# Altium integrated library TI Power Management Linear Regulator Dual Channel LDO.IntLib: 299 symbols (part 3 of 15)
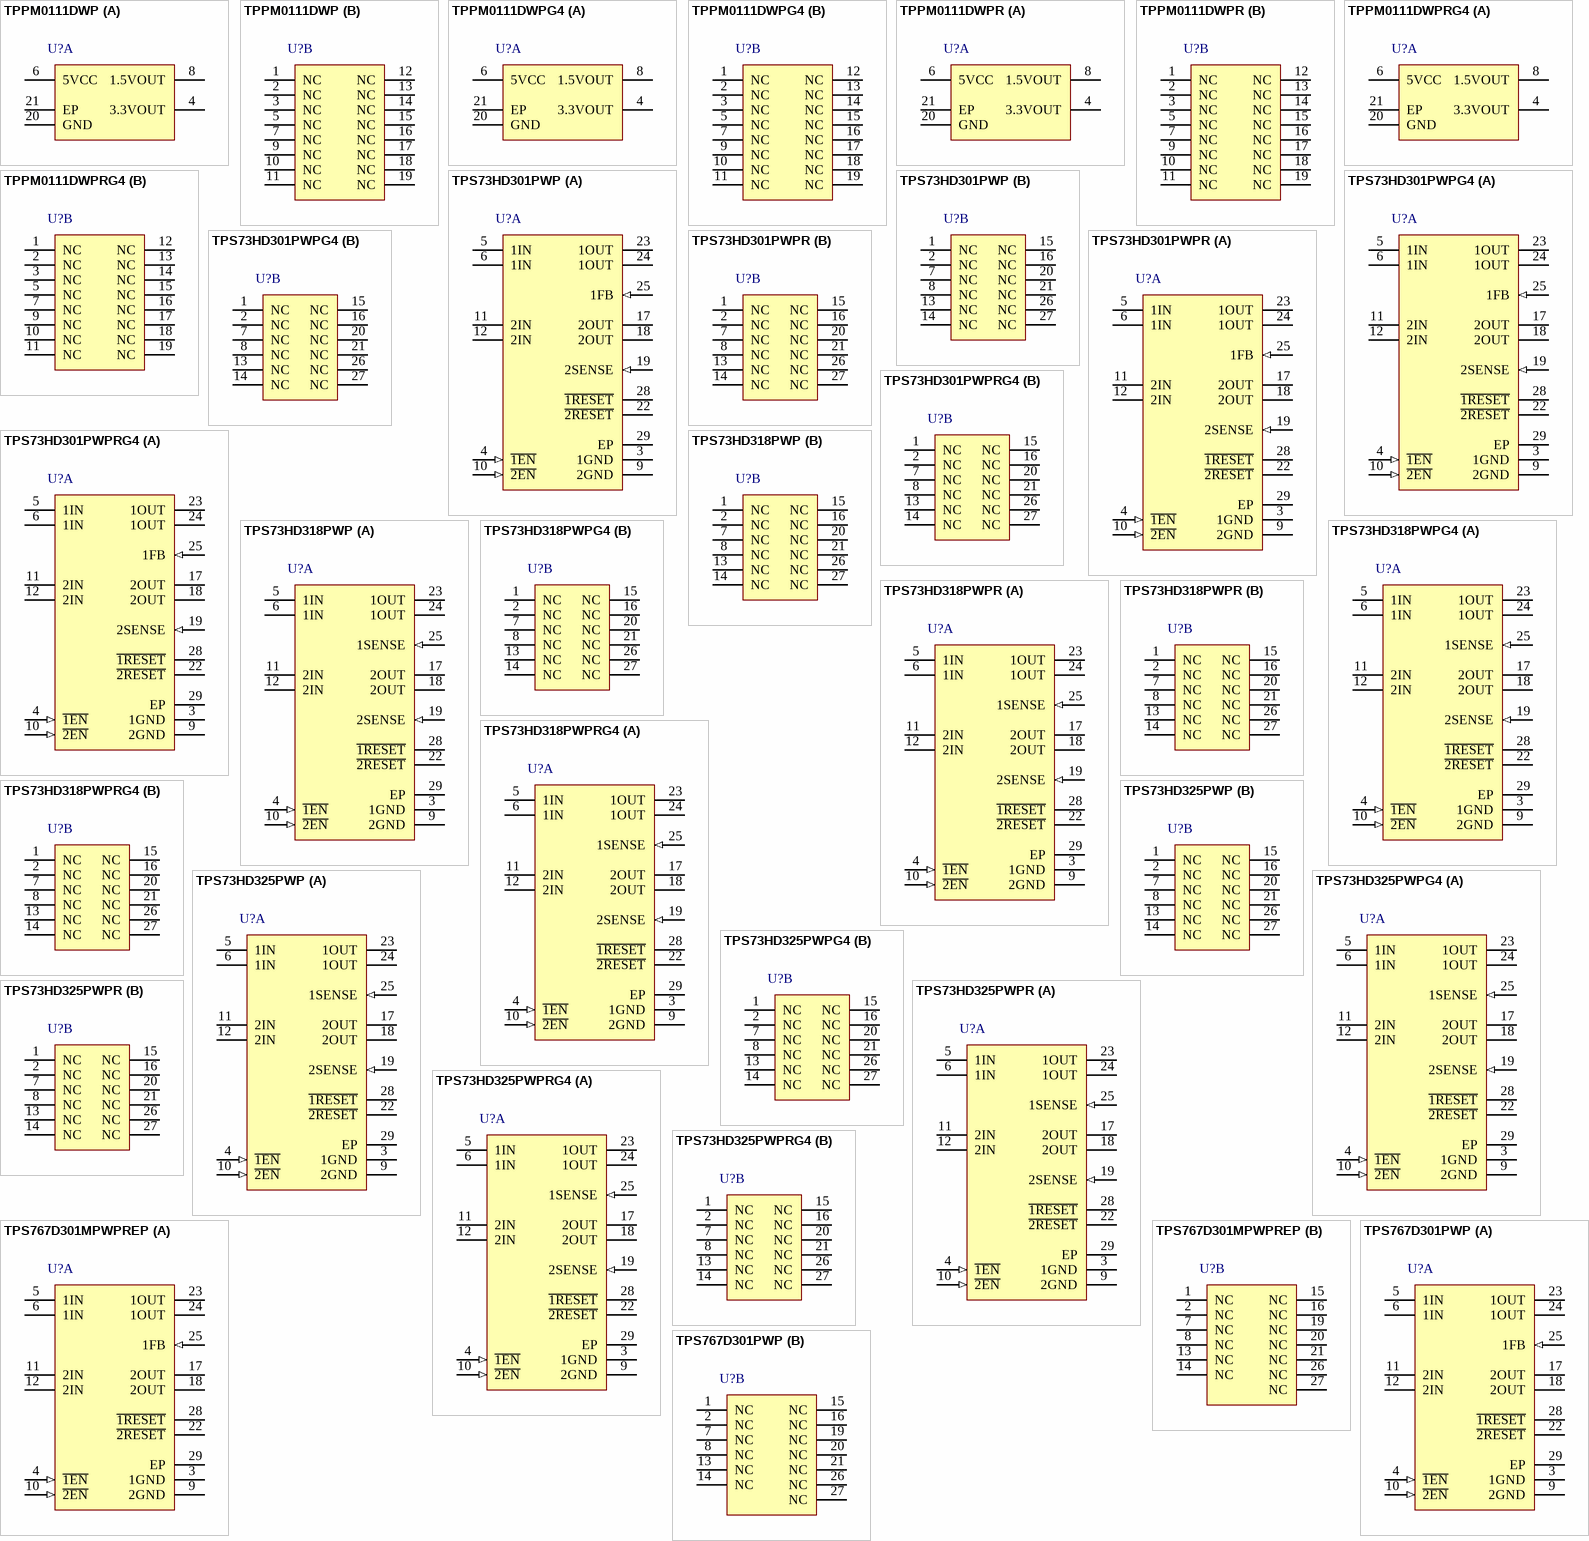
[diagram p13: symbols TPPM0111DWP to TPS767D301PWP]

## TPS73HD301PWPR
designator U?
Dual Output LDO, 750 mA, Fixed 3.3 V Output, Adjustable 1.2 to 9.75 V Output, 2.9 to 10 V Input, 28-pin HTSSOP (PWP), -40 to 125 degC, Green (RoHS & no Sb/Br); Manufacturer: Texas Instruments; PartNumber: TPS73HD301PWPR; Fixed Output Options(V): 3.3; Iout(Max)(A): 0.7; Iq(Typ)(mA): 0.34; SubFamily: Dual Channel LDO; Vdo(Typ)(mV): 353; Vin(Max)(V): 10; Vin(Min)(V): 2.9; Vout2(Max)(V): 9.7; Vout2(Min)(V): 1.2; DatasheetVersion: SLVS167C; PackageVersion: 4073225-6/I; PackageReference: PWP28-5720X1950TP; PackageDescription: 28-Pin Plastic Small Outline, Body 4.4 x 9.7 mm, Pitch 0.65 mm; Supplier 1: Digi-Key; Supplier Part Number 1: TPS73HD301PWPR-ND; Supplier 2: Mouser; Supplier Part Number 2: 595-TPS73HD301PWPR; Eco-Plan: Green (RoHS & no Sb/Br); Iout2(A): 0.7; Vout(Max)(V): 3.3; Vout(Min)(V): 3.3; Mounting Technology: Surface Mount; Code_JEDEC: MO-153; ComponentLink1Description: Manufacturer URL; ComponentLink1URL: http://www.ti.com/; ComponentLink2Description: Datasheet; ComponentLink2URL: http://www.ti.com/general/docs/lit/getliterature.tsp?genericPartNumber=TPS73HD301&fileType=pdf; ComponentLink3Description: Package Specification; ComponentLink3URL: http://www.ti.com/litv/pdf/mpds373
footprint TI-PWP28-5720X1950TP_N (SOP, 28-Leads, Body 9.7x4.4mm, Pitch 0.65mm, Thermal Pad 5.72 x 1.95mm, IPC Medium Density)
footprint TI-PWP28-5720X1950TP_L (SOP, 28-Leads, Body 9.7x4.4mm, Pitch 0.65mm, Thermal Pad 5.72 x 1.95mm, IPC High Density)
footprint TI-PWP28-5720X1950TP_M (SOP, 28-Leads, Body 9.7x4.4mm, Pitch 0.65mm, Thermal Pad 5.72 x 1.95mm, IPC Low Density)
part A pins: 3 1GND (power) "Regulator #1 ground", 4 ~{1EN} (in) "Regulator #1 enable, low = enable", 5 1IN (power) "Regulator #1 input supply voltage", 6 1IN (power) "Regulator #1 input supply voltage", 9 2GND (power) "Regulator #2 ground", 10 ~{2EN} (in) "Regulator #2 enable, low = enable", 11 2IN (power) "Regulator #2 input supply voltage", 12 2IN (power) "Regulator #2 input supply voltage", 17 2OUT (power) "Regulator #2 output voltage", 18 2OUT (power) "Regulator #2 output voltage", 19 2SENSE (in) "Regulator #2 output voltage sense (fixed output)", 22 ~{2RESET} (oc) "Regulator #2 reset signal, low = reset", 23 1OUT (power) "Regulator #1 output voltage", 24 1OUT (power) "Regulator #1 output voltage", 25 1FB (in) "Regulator #1 output voltage feedback (adjustable output)", 28 ~{1RESET} (oc) "Regulator #1 reset signal, low = reset", 29 EP "Exposed Thermal Pad"
part B pins: 1 NC "No connection", 2 NC "No connection", 7 NC "No connection", 8 NC "No connection", 13 NC "No connection", 14 NC "No connection", 15 NC "No connection", 16 NC "No connection", 20 NC "No connection", 21 NC "No connection", 26 NC "No connection", 27 NC "No connection"

## TPS73HD301PWPRG4
designator U?
Dual Output LDO, 750 mA, Fixed 3.3 V Output, Adjustable 1.2 to 9.75 V Output, 2.9 to 10 V Input, 28-pin HTSSOP (PWP), -40 to 125 degC, Green (RoHS & no Sb/Br); Manufacturer: Texas Instruments; PartNumber: TPS73HD301PWPRG4; Fixed Output Options(V): 3.3; Iout(Max)(A): 0.7; Iq(Typ)(mA): 0.34; SubFamily: Dual Channel LDO; Vdo(Typ)(mV): 353; Vin(Max)(V): 10; Vin(Min)(V): 2.9; Vout2(Max)(V): 9.7; Vout2(Min)(V): 1.2; DatasheetVersion: SLVS167C; PackageVersion: 4073225-6/I; PackageReference: PWP28-5720X1950TP; PackageDescription: 28-Pin Plastic Small Outline, Body 4.4 x 9.7 mm, Pitch 0.65 mm; Supplier 1: Digi-Key; Supplier Part Number 1: TPS73HD301PWPRG4-ND; Supplier 2: Mouser; Supplier Part Number 2: 595-TPS73HD301PWPRG4; Eco-Plan: Green (RoHS & no Sb/Br); Iout2(A): 0.7; Vout(Max)(V): 3.3; Vout(Min)(V): 3.3; Mounting Technology: Surface Mount; Code_JEDEC: MO-153; ComponentLink1Description: Manufacturer URL; ComponentLink1URL: http://www.ti.com/; ComponentLink2Description: Datasheet; ComponentLink2URL: http://www.ti.com/general/docs/lit/getliterature.tsp?genericPartNumber=TPS73HD301&fileType=pdf; ComponentLink3Description: Package Specification; ComponentLink3URL: http://www.ti.com/litv/pdf/mpds373
footprint TI-PWP28-5720X1950TP_N (SOP, 28-Leads, Body 9.7x4.4mm, Pitch 0.65mm, Thermal Pad 5.72 x 1.95mm, IPC Medium Density)
footprint TI-PWP28-5720X1950TP_L (SOP, 28-Leads, Body 9.7x4.4mm, Pitch 0.65mm, Thermal Pad 5.72 x 1.95mm, IPC High Density)
footprint TI-PWP28-5720X1950TP_M (SOP, 28-Leads, Body 9.7x4.4mm, Pitch 0.65mm, Thermal Pad 5.72 x 1.95mm, IPC Low Density)
part A pins: 3 1GND (power) "Regulator #1 ground", 4 ~{1EN} (in) "Regulator #1 enable, low = enable", 5 1IN (power) "Regulator #1 input supply voltage", 6 1IN (power) "Regulator #1 input supply voltage", 9 2GND (power) "Regulator #2 ground", 10 ~{2EN} (in) "Regulator #2 enable, low = enable", 11 2IN (power) "Regulator #2 input supply voltage", 12 2IN (power) "Regulator #2 input supply voltage", 17 2OUT (power) "Regulator #2 output voltage", 18 2OUT (power) "Regulator #2 output voltage", 19 2SENSE (in) "Regulator #2 output voltage sense (fixed output)", 22 ~{2RESET} (oc) "Regulator #2 reset signal, low = reset", 23 1OUT (power) "Regulator #1 output voltage", 24 1OUT (power) "Regulator #1 output voltage", 25 1FB (in) "Regulator #1 output voltage feedback (adjustable output)", 28 ~{1RESET} (oc) "Regulator #1 reset signal, low = reset", 29 EP "Exposed Thermal Pad"
part B pins: 1 NC "No connection", 2 NC "No connection", 7 NC "No connection", 8 NC "No connection", 13 NC "No connection", 14 NC "No connection", 15 NC "No connection", 16 NC "No connection", 20 NC "No connection", 21 NC "No connection", 26 NC "No connection", 27 NC "No connection"

## TPS73HD318PWP
designator U?
Dual Output LDO, 750 mA, Fixed 1.8, 3.3 V Output, 2.9 to 10 V Input, 28-pin HTSSOP (PWP), -40 to 125 degC, Green (RoHS & no Sb/Br); Manufacturer: Texas Instruments; PartNumber: TPS73HD318PWP; Iout(Max)(A): 0.7; Iq(Typ)(mA): 0.34; SubFamily: Dual Channel LDO; Vdo(Typ)(mV): 220; Vin(Max)(V): 10; Vin(Min)(V): 2.9; Vout(Max)(V): 1.8; Vout2(Max)(V): 3.3; DatasheetVersion: SLVS167C; PackageVersion: 4073225-6/I; PackageReference: PWP28-5720X1950TP; PackageDescription: 28-Pin Plastic Small Outline, Body 4.4 x 9.7 mm, Pitch 0.65 mm; Supplier 1: Digi-Key; Supplier Part Number 1: 296-2667-5-ND; Supplier 2: Newark; Supplier Part Number 2: 77C0866; Supplier 3: Mouser; Supplier Part Number 3: 595-TPS73HD318PWP; Eco-Plan: Green (RoHS & no Sb/Br); Fixed Output Options(V): 1.8, 3.3; Iout2(A): 0.7; Vout(Min)(V): 1.8; Vout2(Min)(V): 3.3; Mounting Technology: Surface Mount; Code_JEDEC: MO-153; ComponentLink1Description: Manufacturer URL; ComponentLink1URL: http://www.ti.com/; ComponentLink2Description: Datasheet; ComponentLink2URL: http://www.ti.com/general/docs/lit/getliterature.tsp?genericPartNumber=TPS73HD318&fileType=pdf; ComponentLink3Description: Package Specification; ComponentLink3URL: http://www.ti.com/litv/pdf/mpds373
footprint TI-PWP28-5720X1950TP_N (SOP, 28-Leads, Body 9.7x4.4mm, Pitch 0.65mm, Thermal Pad 5.72 x 1.95mm, IPC Medium Density)
footprint TI-PWP28-5720X1950TP_L (SOP, 28-Leads, Body 9.7x4.4mm, Pitch 0.65mm, Thermal Pad 5.72 x 1.95mm, IPC High Density)
footprint TI-PWP28-5720X1950TP_M (SOP, 28-Leads, Body 9.7x4.4mm, Pitch 0.65mm, Thermal Pad 5.72 x 1.95mm, IPC Low Density)
part A pins: 3 1GND (power) "Regulator #1 ground", 4 ~{1EN} (in) "Regulator #1 enable, low = enable", 5 1IN (power) "Regulator #1 input supply voltage", 6 1IN (power) "Regulator #1 input supply voltage", 9 2GND (power) "Regulator #2 ground", 10 ~{2EN} (in) "Regulator #2 enable, low = enable", 11 2IN (power) "Regulator #2 input supply voltage", 12 2IN (power) "Regulator #2 input supply voltage", 17 2OUT (power) "Regulator #2 output voltage", 18 2OUT (power) "Regulator #2 output voltage", 19 2SENSE (in) "Regulator #2 output voltage sense (fixed output)", 22 ~{2RESET} (oc) "Regulator #2 reset signal, low = reset", 23 1OUT (power) "Regulator #1 output voltage", 24 1OUT (power) "Regulator #1 output voltage", 25 1SENSE (in), 28 ~{1RESET} (oc) "Regulator #1 reset signal, low = reset", 29 EP "Exposed Thermal Pad"
part B pins: 1 NC "No connection", 2 NC "No connection", 7 NC "No connection", 8 NC "No connection", 13 NC "No connection", 14 NC "No connection", 15 NC "No connection", 16 NC "No connection", 20 NC "No connection", 21 NC "No connection", 26 NC "No connection", 27 NC "No connection"

## TPS73HD318PWPG4
designator U?
Dual Output LDO, 750 mA, Fixed 1.8, 3.3 V Output, 2.9 to 10 V Input, 28-pin HTSSOP (PWP), -40 to 125 degC, Green (RoHS & no Sb/Br); Manufacturer: Texas Instruments; PartNumber: TPS73HD318PWPG4; Iout(Max)(A): 0.7; Iq(Typ)(mA): 0.34; SubFamily: Dual Channel LDO; Vdo(Typ)(mV): 220; Vin(Max)(V): 10; Vin(Min)(V): 2.9; Vout(Max)(V): 1.8; Vout2(Max)(V): 3.3; DatasheetVersion: SLVS167C; PackageVersion: 4073225-6/I; PackageReference: PWP28-5720X1950TP; PackageDescription: 28-Pin Plastic Small Outline, Body 4.4 x 9.7 mm, Pitch 0.65 mm; Supplier 1: Digi-Key; Supplier Part Number 1: TPS73HD318PWPG4-ND; Supplier 2: Newark; Supplier Part Number 2: 58K6966; Supplier 3: Mouser; Supplier Part Number 3: 595-TPS73HD318PWPG4; Eco-Plan: Green (RoHS & no Sb/Br); Fixed Output Options(V): 1.8, 3.3; Iout2(A): 0.7; Vout(Min)(V): 1.8; Vout2(Min)(V): 3.3; Mounting Technology: Surface Mount; Code_JEDEC: MO-153; ComponentLink1Description: Manufacturer URL; ComponentLink1URL: http://www.ti.com/; ComponentLink2Description: Datasheet; ComponentLink2URL: http://www.ti.com/general/docs/lit/getliterature.tsp?genericPartNumber=TPS73HD318&fileType=pdf; ComponentLink3Description: Package Specification; ComponentLink3URL: http://www.ti.com/litv/pdf/mpds373
footprint TI-PWP28-5720X1950TP_N (SOP, 28-Leads, Body 9.7x4.4mm, Pitch 0.65mm, Thermal Pad 5.72 x 1.95mm, IPC Medium Density)
footprint TI-PWP28-5720X1950TP_L (SOP, 28-Leads, Body 9.7x4.4mm, Pitch 0.65mm, Thermal Pad 5.72 x 1.95mm, IPC High Density)
footprint TI-PWP28-5720X1950TP_M (SOP, 28-Leads, Body 9.7x4.4mm, Pitch 0.65mm, Thermal Pad 5.72 x 1.95mm, IPC Low Density)
part A pins: 3 1GND (power) "Regulator #1 ground", 4 ~{1EN} (in) "Regulator #1 enable, low = enable", 5 1IN (power) "Regulator #1 input supply voltage", 6 1IN (power) "Regulator #1 input supply voltage", 9 2GND (power) "Regulator #2 ground", 10 ~{2EN} (in) "Regulator #2 enable, low = enable", 11 2IN (power) "Regulator #2 input supply voltage", 12 2IN (power) "Regulator #2 input supply voltage", 17 2OUT (power) "Regulator #2 output voltage", 18 2OUT (power) "Regulator #2 output voltage", 19 2SENSE (in) "Regulator #2 output voltage sense (fixed output)", 22 ~{2RESET} (oc) "Regulator #2 reset signal, low = reset", 23 1OUT (power) "Regulator #1 output voltage", 24 1OUT (power) "Regulator #1 output voltage", 25 1SENSE (in), 28 ~{1RESET} (oc) "Regulator #1 reset signal, low = reset", 29 EP "Exposed Thermal Pad"
part B pins: 1 NC "No connection", 2 NC "No connection", 7 NC "No connection", 8 NC "No connection", 13 NC "No connection", 14 NC "No connection", 15 NC "No connection", 16 NC "No connection", 20 NC "No connection", 21 NC "No connection", 26 NC "No connection", 27 NC "No connection"

## TPS73HD318PWPR
designator U?
Dual Output LDO, 750 mA, Fixed 1.8, 3.3 V Output, 2.9 to 10 V Input, 28-pin HTSSOP (PWP), -40 to 125 degC, Green (RoHS & no Sb/Br); Manufacturer: Texas Instruments; PartNumber: TPS73HD318PWPR; Iout(Max)(A): 0.7; Iq(Typ)(mA): 0.34; SubFamily: Dual Channel LDO; Vdo(Typ)(mV): 220; Vin(Max)(V): 10; Vin(Min)(V): 2.9; Vout(Max)(V): 1.8; Vout2(Max)(V): 3.3; DatasheetVersion: SLVS167C; PackageVersion: 4073225-6/I; PackageReference: PWP28-5720X1950TP; PackageDescription: 28-Pin Plastic Small Outline, Body 4.4 x 9.7 mm, Pitch 0.65 mm; Supplier 1: Digi-Key; Supplier Part Number 1: 296-2667-2-ND; Supplier 2: Digi-Key; Supplier Part Number 2: 296-2667-1-ND; Supplier 3: Digi-Key; Supplier Part Number 3: 296-2667-6-ND; Supplier 4: Newark; Supplier Part Number 4: 77C0867; Supplier 5: Mouser; Supplier Part Number 5: 595-TPS73HD318PWPR; Eco-Plan: Green (RoHS & no Sb/Br); Fixed Output Options(V): 1.8, 3.3; Iout2(A): 0.7; Vout(Min)(V): 1.8; Vout2(Min)(V): 3.3; Mounting Technology: Surface Mount; Code_JEDEC: MO-153; ComponentLink1Description: Manufacturer URL; ComponentLink1URL: http://www.ti.com/; ComponentLink2Description: Datasheet; ComponentLink2URL: http://www.ti.com/general/docs/lit/getliterature.tsp?genericPartNumber=TPS73HD318&fileType=pdf; ComponentLink3Description: Package Specification; ComponentLink3URL: http://www.ti.com/litv/pdf/mpds373
footprint TI-PWP28-5720X1950TP_N (SOP, 28-Leads, Body 9.7x4.4mm, Pitch 0.65mm, Thermal Pad 5.72 x 1.95mm, IPC Medium Density)
footprint TI-PWP28-5720X1950TP_L (SOP, 28-Leads, Body 9.7x4.4mm, Pitch 0.65mm, Thermal Pad 5.72 x 1.95mm, IPC High Density)
footprint TI-PWP28-5720X1950TP_M (SOP, 28-Leads, Body 9.7x4.4mm, Pitch 0.65mm, Thermal Pad 5.72 x 1.95mm, IPC Low Density)
part A pins: 3 1GND (power) "Regulator #1 ground", 4 ~{1EN} (in) "Regulator #1 enable, low = enable", 5 1IN (power) "Regulator #1 input supply voltage", 6 1IN (power) "Regulator #1 input supply voltage", 9 2GND (power) "Regulator #2 ground", 10 ~{2EN} (in) "Regulator #2 enable, low = enable", 11 2IN (power) "Regulator #2 input supply voltage", 12 2IN (power) "Regulator #2 input supply voltage", 17 2OUT (power) "Regulator #2 output voltage", 18 2OUT (power) "Regulator #2 output voltage", 19 2SENSE (in) "Regulator #2 output voltage sense (fixed output)", 22 ~{2RESET} (oc) "Regulator #2 reset signal, low = reset", 23 1OUT (power) "Regulator #1 output voltage", 24 1OUT (power) "Regulator #1 output voltage", 25 1SENSE (in), 28 ~{1RESET} (oc) "Regulator #1 reset signal, low = reset", 29 EP "Exposed Thermal Pad"
part B pins: 1 NC "No connection", 2 NC "No connection", 7 NC "No connection", 8 NC "No connection", 13 NC "No connection", 14 NC "No connection", 15 NC "No connection", 16 NC "No connection", 20 NC "No connection", 21 NC "No connection", 26 NC "No connection", 27 NC "No connection"

## TPS73HD318PWPRG4
designator U?
Dual Output LDO, 750 mA, Fixed 1.8, 3.3 V Output, 2.9 to 10 V Input, 28-pin HTSSOP (PWP), -40 to 125 degC, Green (RoHS & no Sb/Br); Manufacturer: Texas Instruments; PartNumber: TPS73HD318PWPRG4; Iout(Max)(A): 0.7; Iq(Typ)(mA): 0.34; SubFamily: Dual Channel LDO; Vdo(Typ)(mV): 220; Vin(Max)(V): 10; Vin(Min)(V): 2.9; Vout(Max)(V): 1.8; Vout2(Max)(V): 3.3; DatasheetVersion: SLVS167C; PackageVersion: 4073225-6/I; PackageReference: PWP28-5720X1950TP; PackageDescription: 28-Pin Plastic Small Outline, Body 4.4 x 9.7 mm, Pitch 0.65 mm; Supplier 1: Digi-Key; Supplier Part Number 1: TPS73HD318PWPRG4-ND; Supplier 2: Mouser; Supplier Part Number 2: 595-TPS73HD318PWPRG4; Eco-Plan: Green (RoHS & no Sb/Br); Fixed Output Options(V): 1.8, 3.3; Iout2(A): 0.7; Vout(Min)(V): 1.8; Vout2(Min)(V): 3.3; Mounting Technology: Surface Mount; Code_JEDEC: MO-153; ComponentLink1Description: Manufacturer URL; ComponentLink1URL: http://www.ti.com/; ComponentLink2Description: Datasheet; ComponentLink2URL: http://www.ti.com/general/docs/lit/getliterature.tsp?genericPartNumber=TPS73HD318&fileType=pdf; ComponentLink3Description: Package Specification; ComponentLink3URL: http://www.ti.com/litv/pdf/mpds373
footprint TI-PWP28-5720X1950TP_N (SOP, 28-Leads, Body 9.7x4.4mm, Pitch 0.65mm, Thermal Pad 5.72 x 1.95mm, IPC Medium Density)
footprint TI-PWP28-5720X1950TP_L (SOP, 28-Leads, Body 9.7x4.4mm, Pitch 0.65mm, Thermal Pad 5.72 x 1.95mm, IPC High Density)
footprint TI-PWP28-5720X1950TP_M (SOP, 28-Leads, Body 9.7x4.4mm, Pitch 0.65mm, Thermal Pad 5.72 x 1.95mm, IPC Low Density)
part A pins: 3 1GND (power) "Regulator #1 ground", 4 ~{1EN} (in) "Regulator #1 enable, low = enable", 5 1IN (power) "Regulator #1 input supply voltage", 6 1IN (power) "Regulator #1 input supply voltage", 9 2GND (power) "Regulator #2 ground", 10 ~{2EN} (in) "Regulator #2 enable, low = enable", 11 2IN (power) "Regulator #2 input supply voltage", 12 2IN (power) "Regulator #2 input supply voltage", 17 2OUT (power) "Regulator #2 output voltage", 18 2OUT (power) "Regulator #2 output voltage", 19 2SENSE (in) "Regulator #2 output voltage sense (fixed output)", 22 ~{2RESET} (oc) "Regulator #2 reset signal, low = reset", 23 1OUT (power) "Regulator #1 output voltage", 24 1OUT (power) "Regulator #1 output voltage", 25 1SENSE (in), 28 ~{1RESET} (oc) "Regulator #1 reset signal, low = reset", 29 EP "Exposed Thermal Pad"
part B pins: 1 NC "No connection", 2 NC "No connection", 7 NC "No connection", 8 NC "No connection", 13 NC "No connection", 14 NC "No connection", 15 NC "No connection", 16 NC "No connection", 20 NC "No connection", 21 NC "No connection", 26 NC "No connection", 27 NC "No connection"

## TPS73HD325PWP
designator U?
Dual Output LDO, 750 mA, Fixed 2.5, 3.3 V Output, 2.9 to 10 V Input, 28-pin HTSSOP (PWP), -40 to 125 degC, Green (RoHS & no Sb/Br); Manufacturer: Texas Instruments; PartNumber: TPS73HD325PWP; Iout(Max)(A): 0.7; Iq(Typ)(mA): 0.34; SubFamily: Dual Channel LDO; Vdo(Typ)(mV): 800; Vin(Max)(V): 10; Vin(Min)(V): 2.9; Vout(Max)(V): 2.5; Vout2(Max)(V): 3.3; DatasheetVersion: SLVS167C; PackageVersion: 4073225-6/I; PackageReference: PWP28-5720X1950TP; PackageDescription: 28-Pin Plastic Small Outline, Body 4.4 x 9.7 mm, Pitch 0.65 mm; Supplier 1: Digi-Key; Supplier Part Number 1: 296-34651-5-ND; Supplier 2: Newark; Supplier Part Number 2: 77C0868; Supplier 3: Mouser; Supplier Part Number 3: 595-TPS73HD325PWP; Eco-Plan: Green (RoHS & no Sb/Br); Fixed Output Options(V): 2.5, 3.3; Iout2(A): 0.7; Vout(Min)(V): 2.5; Vout2(Min)(V): 3.3; Mounting Technology: Surface Mount; Code_JEDEC: MO-153; ComponentLink1Description: Manufacturer URL; ComponentLink1URL: http://www.ti.com/; ComponentLink2Description: Datasheet; ComponentLink2URL: http://www.ti.com/general/docs/lit/getliterature.tsp?genericPartNumber=TPS73HD325&fileType=pdf; ComponentLink3Description: Package Specification; ComponentLink3URL: http://www.ti.com/litv/pdf/mpds373
footprint TI-PWP28-5720X1950TP_N (SOP, 28-Leads, Body 9.7x4.4mm, Pitch 0.65mm, Thermal Pad 5.72 x 1.95mm, IPC Medium Density)
footprint TI-PWP28-5720X1950TP_L (SOP, 28-Leads, Body 9.7x4.4mm, Pitch 0.65mm, Thermal Pad 5.72 x 1.95mm, IPC High Density)
footprint TI-PWP28-5720X1950TP_M (SOP, 28-Leads, Body 9.7x4.4mm, Pitch 0.65mm, Thermal Pad 5.72 x 1.95mm, IPC Low Density)
part A pins: 3 1GND (power) "Regulator #1 ground", 4 ~{1EN} (in) "Regulator #1 enable, low = enable", 5 1IN (power) "Regulator #1 input supply voltage", 6 1IN (power) "Regulator #1 input supply voltage", 9 2GND (power) "Regulator #2 ground", 10 ~{2EN} (in) "Regulator #2 enable, low = enable", 11 2IN (power) "Regulator #2 input supply voltage", 12 2IN (power) "Regulator #2 input supply voltage", 17 2OUT (power) "Regulator #2 output voltage", 18 2OUT (power) "Regulator #2 output voltage", 19 2SENSE (in) "Regulator #2 output voltage sense (fixed output)", 22 ~{2RESET} (oc) "Regulator #2 reset signal, low = reset", 23 1OUT (power) "Regulator #1 output voltage", 24 1OUT (power) "Regulator #1 output voltage", 25 1SENSE (in), 28 ~{1RESET} (oc) "Regulator #1 reset signal, low = reset", 29 EP "Exposed Thermal Pad"
part B pins: 1 NC "No connection", 2 NC "No connection", 7 NC "No connection", 8 NC "No connection", 13 NC "No connection", 14 NC "No connection", 15 NC "No connection", 16 NC "No connection", 20 NC "No connection", 21 NC "No connection", 26 NC "No connection", 27 NC "No connection"

## TPS73HD325PWPG4
designator U?
Dual Output LDO, 750 mA, Fixed 2.5, 3.3 V Output, 2.9 to 10 V Input, 28-pin HTSSOP (PWP), -40 to 125 degC, Green (RoHS & no Sb/Br); Manufacturer: Texas Instruments; PartNumber: TPS73HD325PWPG4; Iout(Max)(A): 0.7; Iq(Typ)(mA): 0.34; SubFamily: Dual Channel LDO; Vdo(Typ)(mV): 800; Vin(Max)(V): 10; Vin(Min)(V): 2.9; Vout(Max)(V): 2.5; Vout2(Max)(V): 3.3; DatasheetVersion: SLVS167C; PackageVersion: 4073225-6/I; PackageReference: PWP28-5720X1950TP; PackageDescription: 28-Pin Plastic Small Outline, Body 4.4 x 9.7 mm, Pitch 0.65 mm; Supplier 1: Digi-Key; Supplier Part Number 1: TPS73HD325PWPG4-ND; Supplier 2: Mouser; Supplier Part Number 2: 595-TPS73HD325PWPG4; Eco-Plan: Green (RoHS & no Sb/Br); Fixed Output Options(V): 2.5, 3.3; Iout2(A): 0.7; Vout(Min)(V): 2.5; Vout2(Min)(V): 3.3; Mounting Technology: Surface Mount; Code_JEDEC: MO-153; ComponentLink1Description: Manufacturer URL; ComponentLink1URL: http://www.ti.com/; ComponentLink2Description: Datasheet; ComponentLink2URL: http://www.ti.com/general/docs/lit/getliterature.tsp?genericPartNumber=TPS73HD325&fileType=pdf; ComponentLink3Description: Package Specification; ComponentLink3URL: http://www.ti.com/litv/pdf/mpds373
footprint TI-PWP28-5720X1950TP_N (SOP, 28-Leads, Body 9.7x4.4mm, Pitch 0.65mm, Thermal Pad 5.72 x 1.95mm, IPC Medium Density)
footprint TI-PWP28-5720X1950TP_L (SOP, 28-Leads, Body 9.7x4.4mm, Pitch 0.65mm, Thermal Pad 5.72 x 1.95mm, IPC High Density)
footprint TI-PWP28-5720X1950TP_M (SOP, 28-Leads, Body 9.7x4.4mm, Pitch 0.65mm, Thermal Pad 5.72 x 1.95mm, IPC Low Density)
part A pins: 3 1GND (power) "Regulator #1 ground", 4 ~{1EN} (in) "Regulator #1 enable, low = enable", 5 1IN (power) "Regulator #1 input supply voltage", 6 1IN (power) "Regulator #1 input supply voltage", 9 2GND (power) "Regulator #2 ground", 10 ~{2EN} (in) "Regulator #2 enable, low = enable", 11 2IN (power) "Regulator #2 input supply voltage", 12 2IN (power) "Regulator #2 input supply voltage", 17 2OUT (power) "Regulator #2 output voltage", 18 2OUT (power) "Regulator #2 output voltage", 19 2SENSE (in) "Regulator #2 output voltage sense (fixed output)", 22 ~{2RESET} (oc) "Regulator #2 reset signal, low = reset", 23 1OUT (power) "Regulator #1 output voltage", 24 1OUT (power) "Regulator #1 output voltage", 25 1SENSE (in), 28 ~{1RESET} (oc) "Regulator #1 reset signal, low = reset", 29 EP "Exposed Thermal Pad"
part B pins: 1 NC "No connection", 2 NC "No connection", 7 NC "No connection", 8 NC "No connection", 13 NC "No connection", 14 NC "No connection", 15 NC "No connection", 16 NC "No connection", 20 NC "No connection", 21 NC "No connection", 26 NC "No connection", 27 NC "No connection"

## TPS73HD325PWPR
designator U?
Dual Output LDO, 750 mA, Fixed 2.5, 3.3 V Output, 2.9 to 10 V Input, 28-pin HTSSOP (PWP), -40 to 125 degC, Green (RoHS & no Sb/Br); Manufacturer: Texas Instruments; PartNumber: TPS73HD325PWPR; Iout(Max)(A): 0.7; Iq(Typ)(mA): 0.34; SubFamily: Dual Channel LDO; Vdo(Typ)(mV): 800; Vin(Max)(V): 10; Vin(Min)(V): 2.9; Vout(Max)(V): 2.5; Vout2(Max)(V): 3.3; DatasheetVersion: SLVS167C; PackageVersion: 4073225-6/I; PackageReference: PWP28-5720X1950TP; PackageDescription: 28-Pin Plastic Small Outline, Body 4.4 x 9.7 mm, Pitch 0.65 mm; Supplier 1: Digi-Key; Supplier Part Number 1: 296-8071-2-ND; Supplier 2: Digi-Key; Supplier Part Number 2: 296-8071-1-ND; Supplier 3: Digi-Key; Supplier Part Number 3: 296-8071-6-ND; Supplier 4: Newark; Supplier Part Number 4: 77C0869; Supplier 5: Mouser; Supplier Part Number 5: 595-TPS73HD325PWPR; Eco-Plan: Green (RoHS & no Sb/Br); Fixed Output Options(V): 2.5, 3.3; Iout2(A): 0.7; Vout(Min)(V): 2.5; Vout2(Min)(V): 3.3; Mounting Technology: Surface Mount; Code_JEDEC: MO-153; ComponentLink1Description: Manufacturer URL; ComponentLink1URL: http://www.ti.com/; ComponentLink2Description: Datasheet; ComponentLink2URL: http://www.ti.com/general/docs/lit/getliterature.tsp?genericPartNumber=TPS73HD325&fileType=pdf; ComponentLink3Description: Package Specification; ComponentLink3URL: http://www.ti.com/litv/pdf/mpds373
footprint TI-PWP28-5720X1950TP_N (SOP, 28-Leads, Body 9.7x4.4mm, Pitch 0.65mm, Thermal Pad 5.72 x 1.95mm, IPC Medium Density)
footprint TI-PWP28-5720X1950TP_L (SOP, 28-Leads, Body 9.7x4.4mm, Pitch 0.65mm, Thermal Pad 5.72 x 1.95mm, IPC High Density)
footprint TI-PWP28-5720X1950TP_M (SOP, 28-Leads, Body 9.7x4.4mm, Pitch 0.65mm, Thermal Pad 5.72 x 1.95mm, IPC Low Density)
part A pins: 3 1GND (power) "Regulator #1 ground", 4 ~{1EN} (in) "Regulator #1 enable, low = enable", 5 1IN (power) "Regulator #1 input supply voltage", 6 1IN (power) "Regulator #1 input supply voltage", 9 2GND (power) "Regulator #2 ground", 10 ~{2EN} (in) "Regulator #2 enable, low = enable", 11 2IN (power) "Regulator #2 input supply voltage", 12 2IN (power) "Regulator #2 input supply voltage", 17 2OUT (power) "Regulator #2 output voltage", 18 2OUT (power) "Regulator #2 output voltage", 19 2SENSE (in) "Regulator #2 output voltage sense (fixed output)", 22 ~{2RESET} (oc) "Regulator #2 reset signal, low = reset", 23 1OUT (power) "Regulator #1 output voltage", 24 1OUT (power) "Regulator #1 output voltage", 25 1SENSE (in), 28 ~{1RESET} (oc) "Regulator #1 reset signal, low = reset", 29 EP "Exposed Thermal Pad"
part B pins: 1 NC "No connection", 2 NC "No connection", 7 NC "No connection", 8 NC "No connection", 13 NC "No connection", 14 NC "No connection", 15 NC "No connection", 16 NC "No connection", 20 NC "No connection", 21 NC "No connection", 26 NC "No connection", 27 NC "No connection"

## TPS73HD325PWPRG4
designator U?
Dual Output LDO, 750 mA, Fixed 2.5, 3.3 V Output, 2.9 to 10 V Input, 28-pin HTSSOP (PWP), -40 to 125 degC, Green (RoHS & no Sb/Br); Manufacturer: Texas Instruments; PartNumber: TPS73HD325PWPRG4; Iout(Max)(A): 0.7; Iq(Typ)(mA): 0.34; SubFamily: Dual Channel LDO; Vdo(Typ)(mV): 800; Vin(Max)(V): 10; Vin(Min)(V): 2.9; Vout(Max)(V): 2.5; Vout2(Max)(V): 3.3; DatasheetVersion: SLVS167C; PackageVersion: 4073225-6/I; PackageReference: PWP28-5720X1950TP; PackageDescription: 28-Pin Plastic Small Outline, Body 4.4 x 9.7 mm, Pitch 0.65 mm; Supplier 1: Digi-Key; Supplier Part Number 1: TPS73HD325PWPRG4-ND; Supplier 2: Mouser; Supplier Part Number 2: 595-TPS73HD325PWPRG4; Eco-Plan: Green (RoHS & no Sb/Br); Fixed Output Options(V): 2.5, 3.3; Iout2(A): 0.7; Vout(Min)(V): 2.5; Vout2(Min)(V): 3.3; Mounting Technology: Surface Mount; Code_JEDEC: MO-153; ComponentLink1Description: Manufacturer URL; ComponentLink1URL: http://www.ti.com/; ComponentLink2Description: Datasheet; ComponentLink2URL: http://www.ti.com/general/docs/lit/getliterature.tsp?genericPartNumber=TPS73HD325&fileType=pdf; ComponentLink3Description: Package Specification; ComponentLink3URL: http://www.ti.com/litv/pdf/mpds373
footprint TI-PWP28-5720X1950TP_N (SOP, 28-Leads, Body 9.7x4.4mm, Pitch 0.65mm, Thermal Pad 5.72 x 1.95mm, IPC Medium Density)
footprint TI-PWP28-5720X1950TP_L (SOP, 28-Leads, Body 9.7x4.4mm, Pitch 0.65mm, Thermal Pad 5.72 x 1.95mm, IPC High Density)
footprint TI-PWP28-5720X1950TP_M (SOP, 28-Leads, Body 9.7x4.4mm, Pitch 0.65mm, Thermal Pad 5.72 x 1.95mm, IPC Low Density)
part A pins: 3 1GND (power) "Regulator #1 ground", 4 ~{1EN} (in) "Regulator #1 enable, low = enable", 5 1IN (power) "Regulator #1 input supply voltage", 6 1IN (power) "Regulator #1 input supply voltage", 9 2GND (power) "Regulator #2 ground", 10 ~{2EN} (in) "Regulator #2 enable, low = enable", 11 2IN (power) "Regulator #2 input supply voltage", 12 2IN (power) "Regulator #2 input supply voltage", 17 2OUT (power) "Regulator #2 output voltage", 18 2OUT (power) "Regulator #2 output voltage", 19 2SENSE (in) "Regulator #2 output voltage sense (fixed output)", 22 ~{2RESET} (oc) "Regulator #2 reset signal, low = reset", 23 1OUT (power) "Regulator #1 output voltage", 24 1OUT (power) "Regulator #1 output voltage", 25 1SENSE (in), 28 ~{1RESET} (oc) "Regulator #1 reset signal, low = reset", 29 EP "Exposed Thermal Pad"
part B pins: 1 NC "No connection", 2 NC "No connection", 7 NC "No connection", 8 NC "No connection", 13 NC "No connection", 14 NC "No connection", 15 NC "No connection", 16 NC "No connection", 20 NC "No connection", 21 NC "No connection", 26 NC "No connection", 27 NC "No connection"

## TPS767D301MPWPREP
designator U?
Dual Output LDO, 1 A, Adjustable 1.5 to 5.5 V Output, 2.7 to 10 V Input, 28-pin HTSSOP (PWP), -55 to 125 degC, Green (RoHS & no Sb/Br); Manufacturer: Texas Instruments; PartNumber: TPS767D301MPWPREP; Fixed Output Options(V): 3.3; Iout(Max)(A): 1; Iq(Typ)(mA): 0.08; SubFamily: Dual Channel LDO; Vdo(Typ)(mV): 350; Vin(Max)(V): 10; Vin(Min)(V): 2.7; DatasheetVersion: SGLS327A; PackageVersion: 4073225-6/I; PackageReference: PWP28-5720X1950TP; PackageDescription: 28-Pin Plastic Small Outline, Body 4.4 x 9.7 mm, Pitch 0.65 mm; Supplier 1: Digi-Key; Supplier Part Number 1: 296-21351-2-ND; Supplier 2: Digi-Key; Supplier Part Number 2: 296-21351-1-ND; Supplier 3: Digi-Key; Supplier Part Number 3: 296-21351-6-ND; Supplier 4: Newark; Supplier Part Number 4: 46M1174; Supplier 5: Mouser; Supplier Part Number 5: 595-PS767D301MPWPREP; Eco-Plan: Green (RoHS & no Sb/Br); Iout2(A): 1; Mounting Technology: Surface Mount; Code_JEDEC: MO-153; ComponentLink1Description: Manufacturer URL; ComponentLink1URL: http://www.ti.com/; ComponentLink2Description: Datasheet; ComponentLink2URL: http://www.ti.com/general/docs/lit/getliterature.tsp?genericPartNumber=TPS767D301-EP&fileType=pdf; ComponentLink3Description: Package Specification; ComponentLink3URL: http://www.ti.com/litv/pdf/mpds373
footprint TI-PWP28-5720X1950TP_N (SOP, 28-Leads, Body 9.7x4.4mm, Pitch 0.65mm, Thermal Pad 5.72 x 1.95mm, IPC Medium Density)
footprint TI-PWP28-5720X1950TP_L (SOP, 28-Leads, Body 9.7x4.4mm, Pitch 0.65mm, Thermal Pad 5.72 x 1.95mm, IPC High Density)
footprint TI-PWP28-5720X1950TP_M (SOP, 28-Leads, Body 9.7x4.4mm, Pitch 0.65mm, Thermal Pad 5.72 x 1.95mm, IPC Low Density)
part A pins: 3 1GND (power) "Regulator #1 ground", 4 ~{1EN} (in) "Regulator #1 enable", 5 1IN (power) "Regulator #1 input supply voltage", 6 1IN (power) "Regulator #1 input supply voltage", 9 2GND (power) "Regulator #2 ground", 10 ~{2EN} (in) "Regulator #2 enable", 11 2IN (power) "Regulator #2 input supply voltage", 12 2IN (power) "Regulator #2 input supply voltage", 17 2OUT (power) "Regulator #2 output voltage", 18 2OUT (power) "Regulator #2 output voltage", 22 ~{2RESET} (hiz) "Regulator #2 reset signal", 23 1OUT (power) "Regulator #1 output voltage", 24 1OUT (power) "Regulator #1 output voltage", 25 1FB (in) "Regulator #1 output voltage feedback for adjustable", 28 ~{1RESET} (hiz) "Regulator #1 reset signal", 29 EP "Exposed Thermal Pad"
part B pins: 1 NC "No connection", 2 NC "No connection", 7 NC "No connection", 8 NC "No connection", 13 NC "No connection", 14 NC "No connection", 15 NC "No connection", 16 NC "No connection", 19 NC "No connection", 20 NC "No connection", 21 NC "No internal connection", 26 NC "No connection", 27 NC "No connection"

## TPS767D301PWP
designator U?
Dual Output LDO, 1 A, Fixed 3.3 V Output, Adjustable 1.5 to 5.5 V Output, 2.7 to 10 V Input, 28-pin HTSSOP (PWP), -40 to 125 degC, Green (RoHS & no Sb/Br); Manufacturer: Texas Instruments; PartNumber: TPS767D301PWP; Fixed Output Options(V): 3.3; Iout(Max)(A): 1; Iq(Typ)(mA): 0.08; SubFamily: Dual Channel LDO; Vdo(Typ)(mV): 350; Vin(Max)(V): 10; Vin(Min)(V): 2.7; DatasheetVersion: SLVS209H; PackageVersion: 4073225-6/I; PackageReference: PWP28-5905X2000TP; PackageDescription: 28-Pin Plastic Small Outline, Body 4.4 x 9.7 mm, Pitch 0.65 mm; Supplier 1: Digi-Key; Supplier Part Number 1: 296-2740-5-ND; Supplier 2: Farnell; Supplier Part Number 2: 1135437; Supplier 3: Newark; Supplier Part Number 3: 18C2282; Supplier 4: Mouser; Supplier Part Number 4: 595-TPS767D301PWP; Eco-Plan: Green (RoHS & no Sb/Br); Iout2(A): 1; Vout(Max)(V): 3.3; Vout(Min)(V): 3.3; Vout2(Max)(V): 3.3; Vout2(Min)(V): 3.3; Mounting Technology: Surface Mount; Code_JEDEC: MO-153; ComponentLink1Description: Manufacturer URL; ComponentLink1URL: http://www.ti.com/; ComponentLink2Description: Datasheet; ComponentLink2URL: http://www.ti.com/general/docs/lit/getliterature.tsp?genericPartNumber=TPS767D301&fileType=pdf; ComponentLink3Description: Package Specification; ComponentLink3URL: http://www.ti.com/litv/pdf/mpds373
footprint TI-PWP28-5905X2000TP_N (SOP, 28-Leads, Body 9.7x4.4mm, Pitch 0.65mm, Thermal Pad 6.405 x 2.000mm, IPC Medium Density)
footprint TI-PWP28-5905X2000TP_L (SOP, 28-Leads, Body 9.7x4.4mm, Pitch 0.65mm, Thermal Pad 6.405 x 2.000mm, IPC High Density)
footprint TI-PWP28-5905X2000TP_M (SOP, 28-Leads, Body 9.7x4.4mm, Pitch 0.65mm, Thermal Pad 6.405 x 2.000mm, IPC Low Density)
part A pins: 3 1GND (power) "Regulator #1 ground", 4 ~{1EN} (in) "Regulator #1 enable", 5 1IN (power) "Regulator #1 input supply voltage", 6 1IN (power) "Regulator #1 input supply voltage", 9 2GND (power) "Regulator #2 ground", 10 ~{2EN} (in) "Regulator #2 enable", 11 2IN (power) "Regulator #2 input supply voltage", 12 2IN (power) "Regulator #2 input supply voltage", 17 2OUT (power) "Regulator #2 output voltage", 18 2OUT (power) "Regulator #2 output voltage", 22 ~{2RESET} (hiz) "Regulator #2 reset signal", 23 1OUT (power) "Regulator #1 output voltage", 24 1OUT (power) "Regulator #1 output voltage", 25 1FB (in) "Regulator #1 output voltage feedback for adjustable", 28 ~{1RESET} (hiz) "Regulator #1 reset signal", 29 EP "Exposed Thermal Pad"
part B pins: 1 NC "No connection", 2 NC "No connection", 7 NC "No connection", 8 NC "No connection", 13 NC "No connection", 14 NC "No connection", 15 NC "No connection", 16 NC "No connection", 19 NC "No connection", 20 NC "No connection", 21 NC "No internal connection", 26 NC "No connection", 27 NC "No connection"

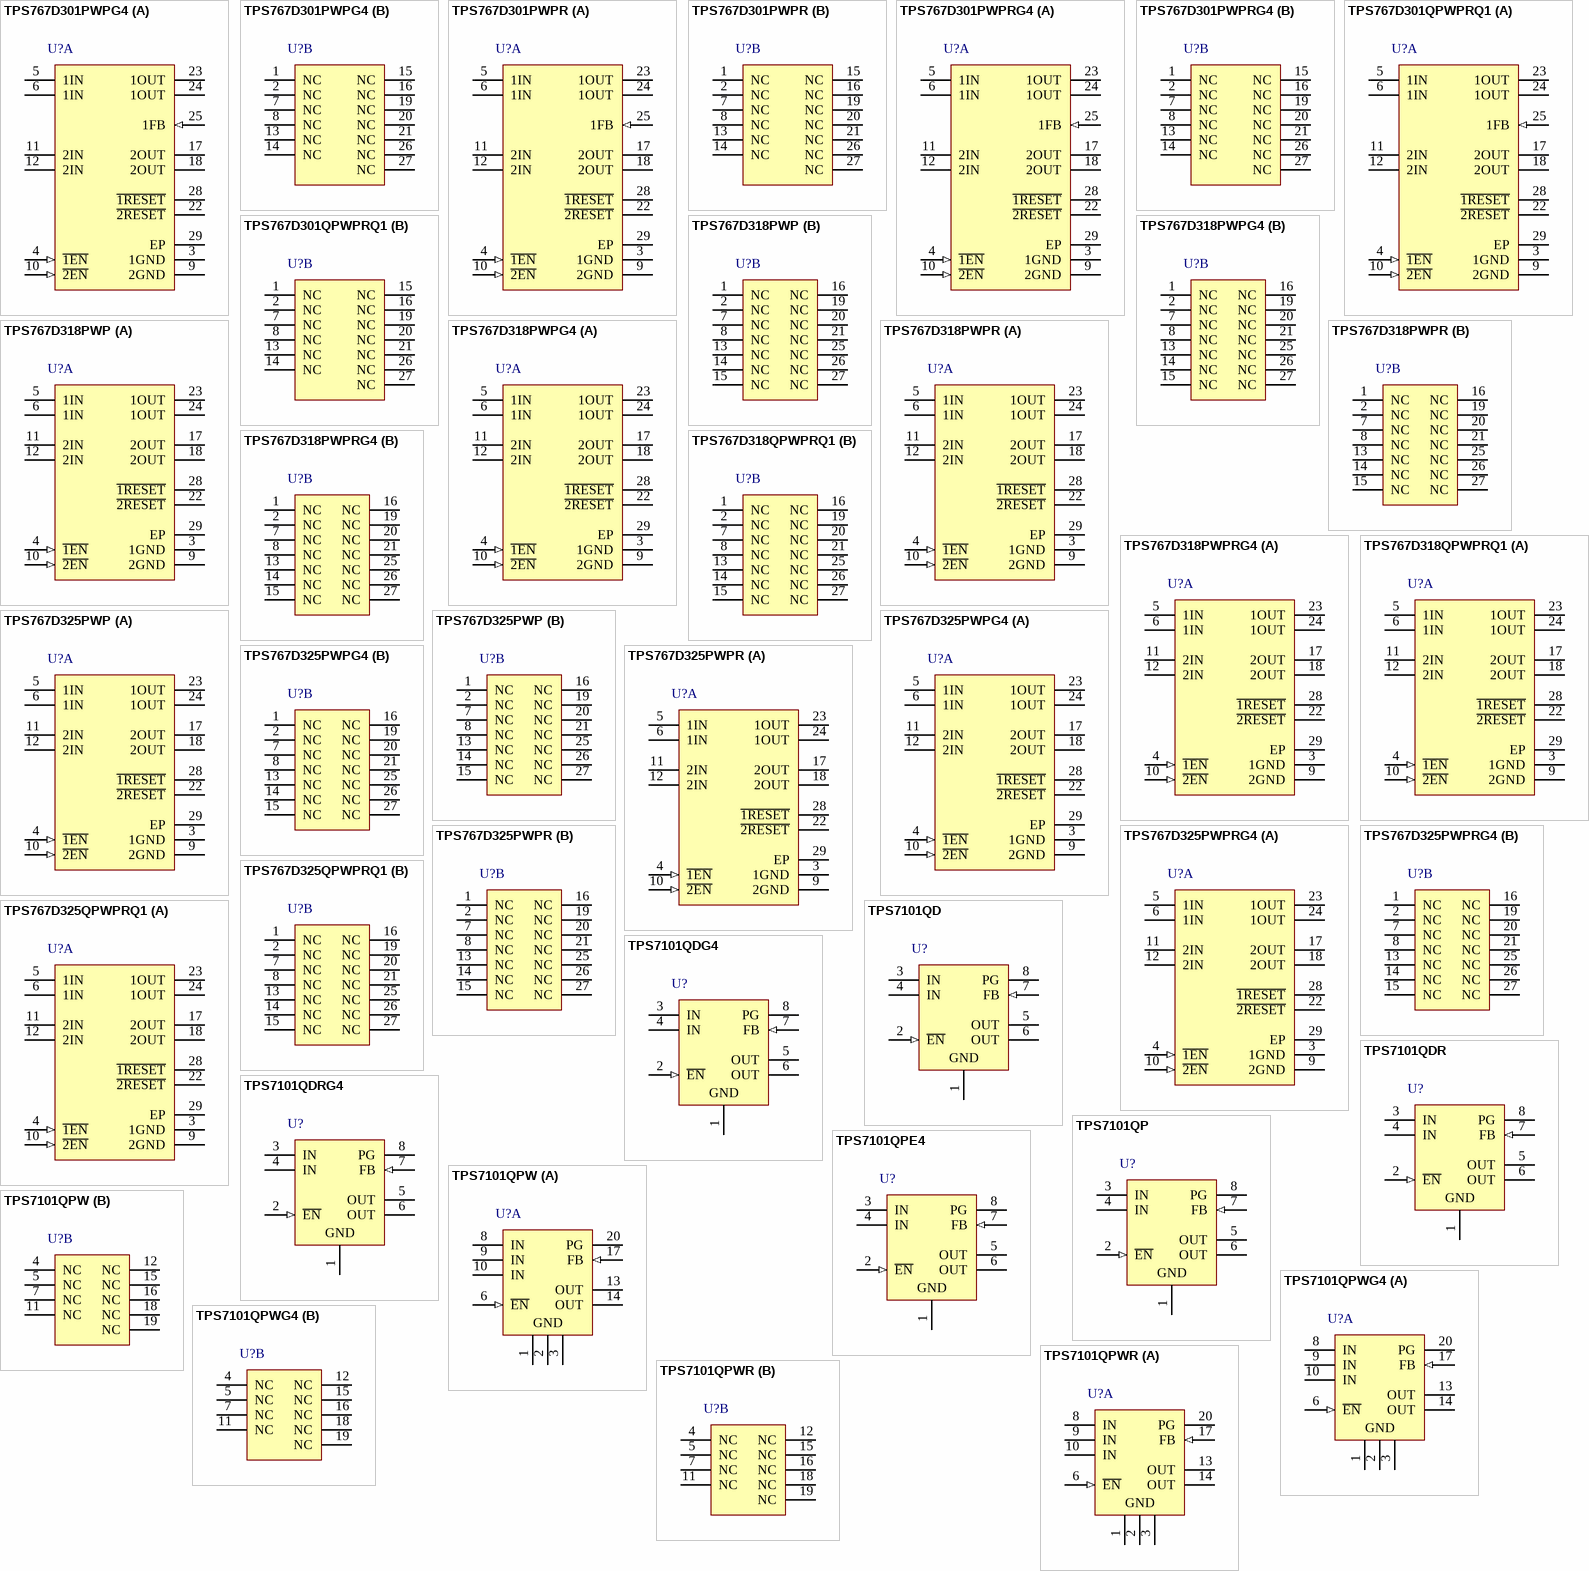
[diagram p2: symbols TPS767D301PWPG4 to TPS7101QPWR]

## TPS767D301PWPG4
designator U?
Dual Output LDO, 1 A, Fixed 3.3 V Output, Adjustable 1.5 to 5.5 V Output, 2.7 to 10 V Input, 28-pin HTSSOP (PWP), -40 to 125 degC, Green (RoHS & no Sb/Br); Manufacturer: Texas Instruments; PartNumber: TPS767D301PWPG4; Fixed Output Options(V): 3.3; Iout(Max)(A): 1; Iq(Typ)(mA): 0.08; SubFamily: Dual Channel LDO; Vdo(Typ)(mV): 350; Vin(Max)(V): 10; Vin(Min)(V): 2.7; DatasheetVersion: SLVS209H; PackageVersion: 4073225-6/I; PackageReference: PWP28-5905X2000TP; PackageDescription: 28-Pin Plastic Small Outline, Body 4.4 x 9.7 mm, Pitch 0.65 mm; Supplier 1: Digi-Key; Supplier Part Number 1: TPS767D301PWPG4-ND; Supplier 2: Newark; Supplier Part Number 2: 58K6986; Supplier 3: Mouser; Supplier Part Number 3: 595-TPS767D301PWPG4; Eco-Plan: Green (RoHS & no Sb/Br); Iout2(A): 1; Vout(Max)(V): 3.3; Vout(Min)(V): 3.3; Vout2(Max)(V): 3.3; Vout2(Min)(V): 3.3; Mounting Technology: Surface Mount; Code_JEDEC: MO-153; ComponentLink1Description: Manufacturer URL; ComponentLink1URL: http://www.ti.com/; ComponentLink2Description: Datasheet; ComponentLink2URL: http://www.ti.com/general/docs/lit/getliterature.tsp?genericPartNumber=TPS767D301&fileType=pdf; ComponentLink3Description: Package Specification; ComponentLink3URL: http://www.ti.com/litv/pdf/mpds373
footprint TI-PWP28-5905X2000TP_N (SOP, 28-Leads, Body 9.7x4.4mm, Pitch 0.65mm, Thermal Pad 6.405 x 2.000mm, IPC Medium Density)
footprint TI-PWP28-5905X2000TP_L (SOP, 28-Leads, Body 9.7x4.4mm, Pitch 0.65mm, Thermal Pad 6.405 x 2.000mm, IPC High Density)
footprint TI-PWP28-5905X2000TP_M (SOP, 28-Leads, Body 9.7x4.4mm, Pitch 0.65mm, Thermal Pad 6.405 x 2.000mm, IPC Low Density)
part A pins: 3 1GND (power) "Regulator #1 ground", 4 ~{1EN} (in) "Regulator #1 enable", 5 1IN (power) "Regulator #1 input supply voltage", 6 1IN (power) "Regulator #1 input supply voltage", 9 2GND (power) "Regulator #2 ground", 10 ~{2EN} (in) "Regulator #2 enable", 11 2IN (power) "Regulator #2 input supply voltage", 12 2IN (power) "Regulator #2 input supply voltage", 17 2OUT (power) "Regulator #2 output voltage", 18 2OUT (power) "Regulator #2 output voltage", 22 ~{2RESET} (hiz) "Regulator #2 reset signal", 23 1OUT (power) "Regulator #1 output voltage", 24 1OUT (power) "Regulator #1 output voltage", 25 1FB (in) "Regulator #1 output voltage feedback for adjustable", 28 ~{1RESET} (hiz) "Regulator #1 reset signal", 29 EP "Exposed Thermal Pad"
part B pins: 1 NC "No connection", 2 NC "No connection", 7 NC "No connection", 8 NC "No connection", 13 NC "No connection", 14 NC "No connection", 15 NC "No connection", 16 NC "No connection", 19 NC "No connection", 20 NC "No connection", 21 NC "No internal connection", 26 NC "No connection", 27 NC "No connection"

## TPS767D301PWPR
designator U?
Dual Output LDO, 1 A, Fixed 3.3 V Output, Adjustable 1.5 to 5.5 V Output, 2.7 to 10 V Input, 28-pin HTSSOP (PWP), -40 to 125 degC, Green (RoHS & no Sb/Br); Manufacturer: Texas Instruments; PartNumber: TPS767D301PWPR; Fixed Output Options(V): 3.3; Iout(Max)(A): 1; Iq(Typ)(mA): 0.08; SubFamily: Dual Channel LDO; Vdo(Typ)(mV): 350; Vin(Max)(V): 10; Vin(Min)(V): 2.7; DatasheetVersion: SLVS209H; PackageVersion: 4073225-6/I; PackageReference: PWP28-5905X2000TP; PackageDescription: 28-Pin Plastic Small Outline, Body 4.4 x 9.7 mm, Pitch 0.65 mm; Supplier 1: Digi-Key; Supplier Part Number 1: 296-27079-2-ND; Supplier 2: Digi-Key; Supplier Part Number 2: 296-27079-1-ND; Supplier 3: Digi-Key; Supplier Part Number 3: 296-27079-6-ND; Supplier 4: Newark; Supplier Part Number 4: 77C1064; Supplier 5: Mouser; Supplier Part Number 5: 595-TPS767D301PWPR; Eco-Plan: Green (RoHS & no Sb/Br); Iout2(A): 1; Vout(Max)(V): 3.3; Vout(Min)(V): 3.3; Vout2(Max)(V): 3.3; Vout2(Min)(V): 3.3; Mounting Technology: Surface Mount; Code_JEDEC: MO-153; ComponentLink1Description: Manufacturer URL; ComponentLink1URL: http://www.ti.com/; ComponentLink2Description: Datasheet; ComponentLink2URL: http://www.ti.com/general/docs/lit/getliterature.tsp?genericPartNumber=TPS767D301&fileType=pdf; ComponentLink3Description: Package Specification; ComponentLink3URL: http://www.ti.com/litv/pdf/mpds373
footprint TI-PWP28-5905X2000TP_N (SOP, 28-Leads, Body 9.7x4.4mm, Pitch 0.65mm, Thermal Pad 6.405 x 2.000mm, IPC Medium Density)
footprint TI-PWP28-5905X2000TP_L (SOP, 28-Leads, Body 9.7x4.4mm, Pitch 0.65mm, Thermal Pad 6.405 x 2.000mm, IPC High Density)
footprint TI-PWP28-5905X2000TP_M (SOP, 28-Leads, Body 9.7x4.4mm, Pitch 0.65mm, Thermal Pad 6.405 x 2.000mm, IPC Low Density)
part A pins: 3 1GND (power) "Regulator #1 ground", 4 ~{1EN} (in) "Regulator #1 enable", 5 1IN (power) "Regulator #1 input supply voltage", 6 1IN (power) "Regulator #1 input supply voltage", 9 2GND (power) "Regulator #2 ground", 10 ~{2EN} (in) "Regulator #2 enable", 11 2IN (power) "Regulator #2 input supply voltage", 12 2IN (power) "Regulator #2 input supply voltage", 17 2OUT (power) "Regulator #2 output voltage", 18 2OUT (power) "Regulator #2 output voltage", 22 ~{2RESET} (hiz) "Regulator #2 reset signal", 23 1OUT (power) "Regulator #1 output voltage", 24 1OUT (power) "Regulator #1 output voltage", 25 1FB (in) "Regulator #1 output voltage feedback for adjustable", 28 ~{1RESET} (hiz) "Regulator #1 reset signal", 29 EP "Exposed Thermal Pad"
part B pins: 1 NC "No connection", 2 NC "No connection", 7 NC "No connection", 8 NC "No connection", 13 NC "No connection", 14 NC "No connection", 15 NC "No connection", 16 NC "No connection", 19 NC "No connection", 20 NC "No connection", 21 NC "No internal connection", 26 NC "No connection", 27 NC "No connection"

## TPS767D301PWPRG4
designator U?
Dual Output LDO, 1 A, Fixed 3.3 V Output, Adjustable 1.5 to 5.5 V Output, 2.7 to 10 V Input, 28-pin HTSSOP (PWP), -40 to 125 degC, Green (RoHS & no Sb/Br); Manufacturer: Texas Instruments; PartNumber: TPS767D301PWPRG4; Fixed Output Options(V): 3.3; Iout(Max)(A): 1; Iq(Typ)(mA): 0.08; SubFamily: Dual Channel LDO; Vdo(Typ)(mV): 350; Vin(Max)(V): 10; Vin(Min)(V): 2.7; DatasheetVersion: SLVS209H; PackageVersion: 4073225-6/I; PackageReference: PWP28-5905X2000TP; PackageDescription: 28-Pin Plastic Small Outline, Body 4.4 x 9.7 mm, Pitch 0.65 mm; Supplier 1: Digi-Key; Supplier Part Number 1: TPS767D301PWPRG4-ND; Supplier 2: Newark; Supplier Part Number 2: 58K6987; Supplier 3: Mouser; Supplier Part Number 3: 595-TPS767D301PWPRG4; Eco-Plan: Green (RoHS & no Sb/Br); Iout2(A): 1; Vout(Max)(V): 3.3; Vout(Min)(V): 3.3; Vout2(Max)(V): 3.3; Vout2(Min)(V): 3.3; Mounting Technology: Surface Mount; Code_JEDEC: MO-153; ComponentLink1Description: Manufacturer URL; ComponentLink1URL: http://www.ti.com/; ComponentLink2Description: Datasheet; ComponentLink2URL: http://www.ti.com/general/docs/lit/getliterature.tsp?genericPartNumber=TPS767D301&fileType=pdf; ComponentLink3Description: Package Specification; ComponentLink3URL: http://www.ti.com/litv/pdf/mpds373
footprint TI-PWP28-5905X2000TP_N (SOP, 28-Leads, Body 9.7x4.4mm, Pitch 0.65mm, Thermal Pad 6.405 x 2.000mm, IPC Medium Density)
footprint TI-PWP28-5905X2000TP_L (SOP, 28-Leads, Body 9.7x4.4mm, Pitch 0.65mm, Thermal Pad 6.405 x 2.000mm, IPC High Density)
footprint TI-PWP28-5905X2000TP_M (SOP, 28-Leads, Body 9.7x4.4mm, Pitch 0.65mm, Thermal Pad 6.405 x 2.000mm, IPC Low Density)
part A pins: 3 1GND (power) "Regulator #1 ground", 4 ~{1EN} (in) "Regulator #1 enable", 5 1IN (power) "Regulator #1 input supply voltage", 6 1IN (power) "Regulator #1 input supply voltage", 9 2GND (power) "Regulator #2 ground", 10 ~{2EN} (in) "Regulator #2 enable", 11 2IN (power) "Regulator #2 input supply voltage", 12 2IN (power) "Regulator #2 input supply voltage", 17 2OUT (power) "Regulator #2 output voltage", 18 2OUT (power) "Regulator #2 output voltage", 22 ~{2RESET} (hiz) "Regulator #2 reset signal", 23 1OUT (power) "Regulator #1 output voltage", 24 1OUT (power) "Regulator #1 output voltage", 25 1FB (in) "Regulator #1 output voltage feedback for adjustable", 28 ~{1RESET} (hiz) "Regulator #1 reset signal", 29 EP "Exposed Thermal Pad"
part B pins: 1 NC "No connection", 2 NC "No connection", 7 NC "No connection", 8 NC "No connection", 13 NC "No connection", 14 NC "No connection", 15 NC "No connection", 16 NC "No connection", 19 NC "No connection", 20 NC "No connection", 21 NC "No internal connection", 26 NC "No connection", 27 NC "No connection"

## TPS767D301QPWPRQ1
designator U?
Dual Output Automotive LDO, 1 A, Fixed 3.3 V Output, Adjustable 1.5 to 5.5 V Output, 2.7 to 10 V Input, 28-pin HTSSOP (PWP), -40 to 125 degC, Green (RoHS & no Sb/Br); Manufacturer: Texas Instruments; PartNumber: TPS767D301QPWPRQ1; Fixed Output Options(V): 3.3; Iout(Max)(A): 1; Iq(Typ)(mA): 0.08; SubFamily: Dual Channel LDO; Vdo(Typ)(mV): 350; Vin(Max)(V): 10; Vin(Min)(V): 2.7; DatasheetVersion: SGLS231A; PackageVersion: 4073225-6/I; PackageReference: PWP28-5905X2000TP; PackageDescription: 28-Pin Plastic Small Outline, Body 4.4 x 9.7 mm, Pitch 0.65 mm; Supplier 1: Digi-Key; Supplier Part Number 1: 296-19002-2-ND; Supplier 2: Digi-Key; Supplier Part Number 2: 296-19002-1-ND; Supplier 3: Digi-Key; Supplier Part Number 3: 296-19002-6-ND; Supplier 4: Farnell; Supplier Part Number 4: 1903411; Supplier 5: Farnell; Supplier Part Number 5: 1903411RL; Supplier 6: Newark; Supplier Part Number 6: 55T3966; Supplier 7: Newark; Supplier Part Number 7: 10J9791; Supplier 8: Mouser; Supplier Part Number 8: 595-TPS767D301PWPRQ1; Eco-Plan: Green (RoHS & no Sb/Br); Iout2(A): 1; Mounting Technology: Surface Mount; Code_JEDEC: MO-153; ComponentLink1Description: Manufacturer URL; ComponentLink1URL: http://www.ti.com/; ComponentLink2Description: Datasheet; ComponentLink2URL: http://www.ti.com/general/docs/lit/getliterature.tsp?genericPartNumber=TPS767D301-Q1&fileType=pdf; ComponentLink3Description: Package Specification; ComponentLink3URL: http://www.ti.com/litv/pdf/mpds373
footprint TI-PWP28-5905X2000TP_N (SOP, 28-Leads, Body 9.7x4.4mm, Pitch 0.65mm, Thermal Pad 6.405 x 2.000mm, IPC Medium Density)
footprint TI-PWP28-5905X2000TP_L (SOP, 28-Leads, Body 9.7x4.4mm, Pitch 0.65mm, Thermal Pad 6.405 x 2.000mm, IPC High Density)
footprint TI-PWP28-5905X2000TP_M (SOP, 28-Leads, Body 9.7x4.4mm, Pitch 0.65mm, Thermal Pad 6.405 x 2.000mm, IPC Low Density)
part A pins: 3 1GND (power) "Regulator #1 ground", 4 ~{1EN} (in) "Regulator #1 enable", 5 1IN (power) "Regulator #1 input supply voltage", 6 1IN (power) "Regulator #1 input supply voltage", 9 2GND (power) "Regulator #2 ground", 10 ~{2EN} (in) "Regulator #2 enable", 11 2IN (power) "Regulator #2 input supply voltage", 12 2IN (power) "Regulator #2 input supply voltage", 17 2OUT (power) "Regulator #2 output voltage", 18 2OUT (power) "Regulator #2 output voltage", 22 ~{2RESET} (hiz) "Regulator #2 reset signal", 23 1OUT (power) "Regulator #1 output voltage", 24 1OUT (power) "Regulator #1 output voltage", 25 1FB (in) "Regulator #1 output voltage feedback for adjustable", 28 ~{1RESET} (hiz) "Regulator #1 reset signal", 29 EP "Exposed Thermal Pad"
part B pins: 1 NC "No connection", 2 NC "No connection", 7 NC "No connection", 8 NC "No connection", 13 NC "No connection", 14 NC "No connection", 15 NC "No connection", 16 NC "No connection", 19 NC "No connection", 20 NC "No connection", 21 NC "No internal connection", 26 NC "No connection", 27 NC "No connection"

## TPS767D318PWP
designator U?
Dual Output LDO, 1 A, Fixed 1.8, 3.3 V Output, 2.7 to 10 V Input, 28-pin HTSSOP (PWP), -40 to 125 degC, Green (RoHS & no Sb/Br); Manufacturer: Texas Instruments; PartNumber: TPS767D318PWP; Iout(Max)(A): 1; Iq(Typ)(mA): 0.08; SubFamily: Dual Channel LDO; Vdo(Typ)(mV): 350; Vin(Max)(V): 10; Vin(Min)(V): 2.7; Vout(Max)(V): 3.3; DatasheetVersion: SLVS209H; PackageVersion: 4073225-6/I; PackageReference: PWP28-5905X2000TP; PackageDescription: 28-Pin Plastic Small Outline, Body 4.4 x 9.7 mm, Pitch 0.65 mm; Supplier 1: Digi-Key; Supplier Part Number 1: 296-2741-5-ND; Supplier 2: Farnell; Supplier Part Number 2: 1135438; Supplier 3: Newark; Supplier Part Number 3: 77C1065; Supplier 4: Mouser; Supplier Part Number 4: 595-TPS767D318PWP; Eco-Plan: Green (RoHS & no Sb/Br); Fixed Output Options(V): 1.8, 3.3; Iout2(A): 1; Vout(Min)(V): 3.3; Vout2(Max)(V): 3.3; Vout2(Min)(V): 3.3; Mounting Technology: Surface Mount; Code_JEDEC: MO-153; ComponentLink1Description: Manufacturer URL; ComponentLink1URL: http://www.ti.com/; ComponentLink2Description: Datasheet; ComponentLink2URL: http://www.ti.com/general/docs/lit/getliterature.tsp?genericPartNumber=TPS767D318&fileType=pdf; ComponentLink3Description: Package Specification; ComponentLink3URL: http://www.ti.com/litv/pdf/mpds373
footprint TI-PWP28-5905X2000TP_N (SOP, 28-Leads, Body 9.7x4.4mm, Pitch 0.65mm, Thermal Pad 6.405 x 2.000mm, IPC Medium Density)
footprint TI-PWP28-5905X2000TP_L (SOP, 28-Leads, Body 9.7x4.4mm, Pitch 0.65mm, Thermal Pad 6.405 x 2.000mm, IPC High Density)
footprint TI-PWP28-5905X2000TP_M (SOP, 28-Leads, Body 9.7x4.4mm, Pitch 0.65mm, Thermal Pad 6.405 x 2.000mm, IPC Low Density)
part A pins: 3 1GND (power) "Regulator #1 ground", 4 ~{1EN} (in) "Regulator #1 enable", 5 1IN (power) "Regulator #1 input supply voltage", 6 1IN (power) "Regulator #1 input supply voltage", 9 2GND (power) "Regulator #2 ground", 10 ~{2EN} (in) "Regulator #2 enable", 11 2IN (power) "Regulator #2 input supply voltage", 12 2IN (power) "Regulator #2 input supply voltage", 17 2OUT (power) "Regulator #2 output voltage", 18 2OUT (power) "Regulator #2 output voltage", 22 ~{2RESET} (hiz) "Regulator #2 reset signal", 23 1OUT (power) "Regulator #1 output voltage", 24 1OUT (power) "Regulator #1 output voltage", 28 ~{1RESET} (hiz) "Regulator #1 reset signal", 29 EP "Exposed Thermal Pad"
part B pins: 1 NC "No internal connection", 2 NC "No internal connection", 7 NC "No internal connection", 8 NC "No internal connection", 13 NC "No internal connection", 14 NC "No internal connection", 15 NC "No internal connection", 16 NC "No internal connection", 19 NC "No internal connection", 20 NC "No internal connection", 21 NC "No internal connection", 25 NC "No internal connection", 26 NC "No internal connection", 27 NC "No internal connection"

## TPS767D318PWPG4
designator U?
Dual Output LDO, 1 A, Fixed 1.8, 3.3 V Output, 2.7 to 10 V Input, 28-pin HTSSOP (PWP), -40 to 125 degC, Green (RoHS & no Sb/Br); Manufacturer: Texas Instruments; PartNumber: TPS767D318PWPG4; Iout(Max)(A): 1; Iq(Typ)(mA): 0.08; SubFamily: Dual Channel LDO; Vdo(Typ)(mV): 350; Vin(Max)(V): 10; Vin(Min)(V): 2.7; Vout(Max)(V): 3.3; DatasheetVersion: SLVS209H; PackageVersion: 4073225-6/I; PackageReference: PWP28-5905X2000TP; PackageDescription: 28-Pin Plastic Small Outline, Body 4.4 x 9.7 mm, Pitch 0.65 mm; Supplier 1: Digi-Key; Supplier Part Number 1: TPS767D318PWPG4-ND; Supplier 2: Mouser; Supplier Part Number 2: 595-TPS767D318PWPG4; Eco-Plan: Green (RoHS & no Sb/Br); Fixed Output Options(V): 1.8, 3.3; Iout2(A): 1; Vout(Min)(V): 3.3; Vout2(Max)(V): 3.3; Vout2(Min)(V): 3.3; Mounting Technology: Surface Mount; Code_JEDEC: MO-153; ComponentLink1Description: Manufacturer URL; ComponentLink1URL: http://www.ti.com/; ComponentLink2Description: Datasheet; ComponentLink2URL: http://www.ti.com/general/docs/lit/getliterature.tsp?genericPartNumber=TPS767D318&fileType=pdf; ComponentLink3Description: Package Specification; ComponentLink3URL: http://www.ti.com/litv/pdf/mpds373
footprint TI-PWP28-5905X2000TP_N (SOP, 28-Leads, Body 9.7x4.4mm, Pitch 0.65mm, Thermal Pad 6.405 x 2.000mm, IPC Medium Density)
footprint TI-PWP28-5905X2000TP_L (SOP, 28-Leads, Body 9.7x4.4mm, Pitch 0.65mm, Thermal Pad 6.405 x 2.000mm, IPC High Density)
footprint TI-PWP28-5905X2000TP_M (SOP, 28-Leads, Body 9.7x4.4mm, Pitch 0.65mm, Thermal Pad 6.405 x 2.000mm, IPC Low Density)
part A pins: 3 1GND (power) "Regulator #1 ground", 4 ~{1EN} (in) "Regulator #1 enable", 5 1IN (power) "Regulator #1 input supply voltage", 6 1IN (power) "Regulator #1 input supply voltage", 9 2GND (power) "Regulator #2 ground", 10 ~{2EN} (in) "Regulator #2 enable", 11 2IN (power) "Regulator #2 input supply voltage", 12 2IN (power) "Regulator #2 input supply voltage", 17 2OUT (power) "Regulator #2 output voltage", 18 2OUT (power) "Regulator #2 output voltage", 22 ~{2RESET} (hiz) "Regulator #2 reset signal", 23 1OUT (power) "Regulator #1 output voltage", 24 1OUT (power) "Regulator #1 output voltage", 28 ~{1RESET} (hiz) "Regulator #1 reset signal", 29 EP "Exposed Thermal Pad"
part B pins: 1 NC "No internal connection", 2 NC "No internal connection", 7 NC "No internal connection", 8 NC "No internal connection", 13 NC "No internal connection", 14 NC "No internal connection", 15 NC "No internal connection", 16 NC "No internal connection", 19 NC "No internal connection", 20 NC "No internal connection", 21 NC "No internal connection", 25 NC "No internal connection", 26 NC "No internal connection", 27 NC "No internal connection"